# Altium schematic symbol library RT6365GQW.SchLib: 1 symbol
Pins are listed as number, name and electrical type; pins without a type are passive.

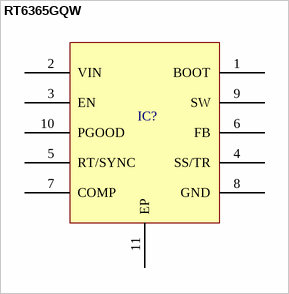
[diagram p0: symbol RT6365GQW]

## RT6365GQW
designator IC?, comment 10-WDFN (4x4)  (value not drawn)
IC REG BUCK ADJ 5A 10WDFN
footprint RT6365GQW (10-WDFN 4x4)
pins: 1 BOOT, 2 VIN, 3 EN, 4 SS/TR, 5 RT/SYNC, 6 FB, 7 COMP, 8 GND, 9 SW, 10 PGOOD, 11 EP